# Altium schematic symbol library XS_8P.Schlib: 1 symbol
Pins are listed as number, name and electrical type; pins without a type are passive.

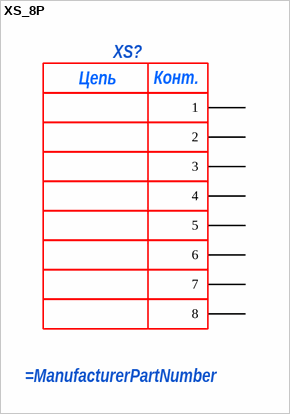
[diagram p0: symbol XS_8P]

## XS_8P
designator XS?
pins: 1, 2, 3, 4, 5, 6, 7, 8
text: Цепь; Конт.